# Altium footprint library LED THT 90°.PcbLib: 1 footprints
Each footprint in its own frame and in the unit in brackets; x right, y up, seen from the top. Pads: shape width x height; smd on the part's side, far side on the other; paste and mask are expansions set on the pad; w line width, h text height; cw(c..) or ccw(c..) is an arc to the next point about the centre after c.
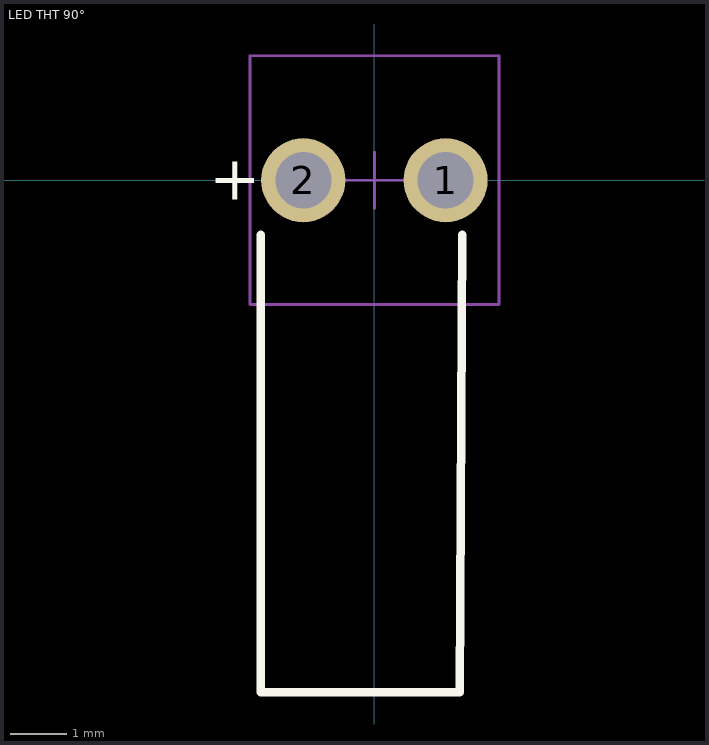
[diagram p0: the footprint, top view; thin cyan lines are the x and y axes]

## LED THT 90° [mm] "THT Mono-color Round Color LED, 2-leads"
height 5.3
pads (2):
  round 1.5 hole 1: 1(1.27,0) 2(-1.27,0)
Top Overlay:
  lines w0.15: -2.027,-0.97 -2.027,-9.135 1.524,-9.135 1.57,-0.97
  text "+" at -2.95,-0.35 h0.8
Mechanical 15:
  lines w0.05: -0.5,0 0.5,0 ; 0,-0.5 0,0.5 ; -2.22,-2.22 -2.22,2.22 2.22,2.22 2.22,-2.22 -2.22,-2.22
3D body "LED 3mm Green 7.5mm Leads 90°.step": height 3.92, standoff -2.35, extent -1.971,-9.135 1.524,0.245